# Altium footprint library PCB1.PcbLib: 10 footprints
Each footprint in its own frame and in the unit in brackets; x right, y up, seen from the top. Pads: shape width x height; smd on the part's side, far side on the other; paste and mask are expansions set on the pad; w line width, h text height; cw(c..) or ccw(c..) is an arc to the next point about the centre after c.
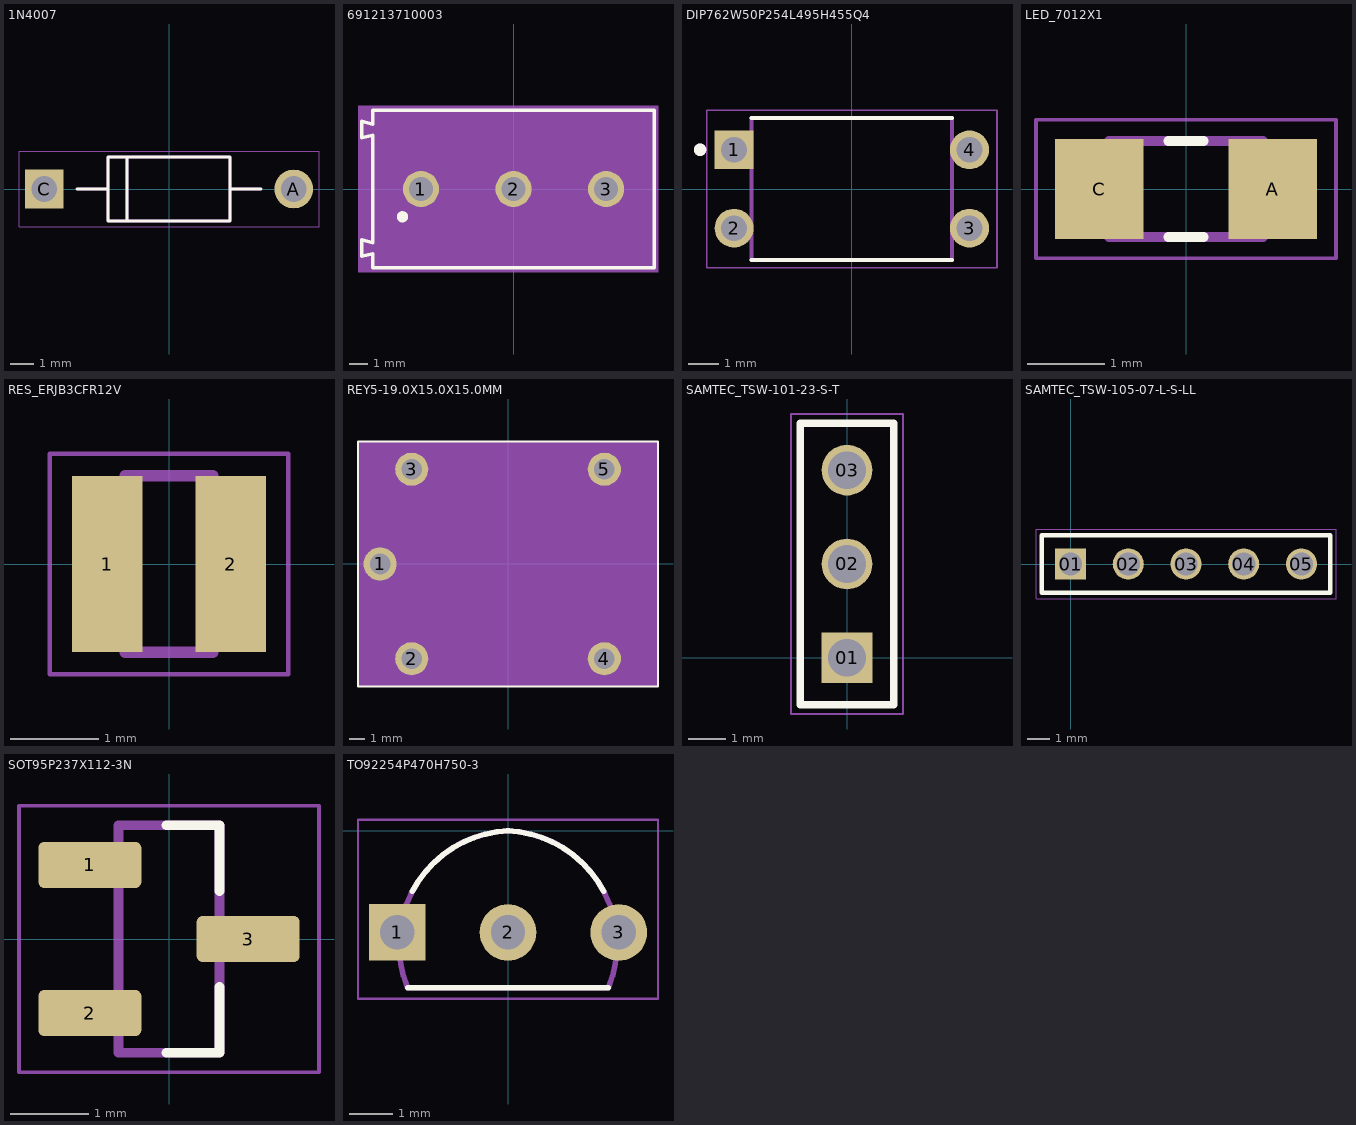
[diagram p0: the footprints below, top view; thin cyan lines are the x and y axes]

## 1N4007 [mm]
pads (2):
  round 1.65 hole 1.1 mask+0.102: A(5.3,0)
  rect 1.65x1.65 / inner round 1.65 / far side rect 1.65x1.65 hole 1.1 mask+0.102: C(-5.3,0)
Top Overlay:
  lines w0.127: -3.9,0 -2.6,0 ; 3.9,0 2.6,0 ; -2.6,0 -2.6,-1.35 -1.775,-1.35 ; -2.6,0 -2.6,1.35 -1.775,1.35 ; -1.775,-1.35 -1.775,1.35 ; -1.775,-1.35 2.6,-1.35 2.6,0 ; -1.775,1.35 2.6,1.35 2.6,0
Mechanical 13:
  lines w0.127: -3.9,0 -2.6,0 ; 3.9,0 2.6,0 ; -2.6,0 -2.6,-1.35 -1.775,-1.35 ; -2.6,0 -2.6,1.35 -1.775,1.35 ; -1.775,-1.35 -1.775,1.35 ; -1.775,-1.35 2.6,-1.35 2.6,0 ; -1.775,1.35 2.6,1.35 2.6,0
Mechanical 15:
  lines w0.05: -6.375,-1.6 -6.375,1.6 6.375,1.6 6.375,-1.6 -6.375,-1.6
3D body "1N4004G.STEP": height 2.71, standoff -21.76, extent -5.573,-1.36 5.573,1.36

## 691213710003 [mm]
pads (3):
  round 1.95 hole 1.3: 1(-5,0) 2(0,0) 3(5,0)
Top Overlay:
  circle w0.4: c-6,-1.5 r0.1
  lines w0.2: -8.2,-3.625 -7.6,-3.5 -7.6,-4.25 7.6,-4.25 7.6,4.25 -7.6,4.25 -7.6,3.5 -8.2,3.65 -8.2,2.775 -7.6,2.9 -7.6,-2.9 -8.2,-2.75 -8.2,-3.625
Mechanical 13:
  lines w0.1: -8.1,-3.525 -7.5,-3.4 -7.5,-4.15 7.5,-4.15 7.5,4.15 -7.5,4.15 -7.5,3.4 -8.1,3.525 -8.1,2.875 -7.5,3 -7.5,-3 -8.1,-2.875 -8.1,-3.525
Mechanical 15:
  region: 7.8,-4.5 -8.4,-4.5 -8.4,4.5 7.8,4.5
3D body "691213710003+%28rev1%29.stp": height 9.54, standoff -4.26, extent -7.599,-4.064 8.001,4.236

## DIP762W50P254L495H455Q4 [mm]
height 4.55
pads (4):
  rect 1.26x1.26 / inner round 1.26 / far side rect 1.26x1.26 hole 0.84: 1(-3.81,1.27)
  round 1.26 hole 0.84: 2(-3.81,-1.27) 3(3.81,-1.27) 4(3.81,1.27)
Top Overlay:
  circle w0.2: c-4.91,1.27 r0.1
  lines w0.127: -3.25,-2.3 3.25,-2.3 ; -3.25,2.3 3.25,2.3
Mechanical 13:
  circle w0.2: c-4.91,1.27 r0.1
  lines w0.127: -3.25,-2.3 -3.25,2.3 3.25,2.3 3.25,-2.3 -3.25,-2.3
Mechanical 15:
  lines w0.05: -4.7,-2.55 -4.7,2.55 4.7,2.55 4.7,-2.55 -4.7,-2.55
3D body "step_temp.STEP": height 5.06, standoff -3.09, extent -3.935,-2.3 3.935,2.3
3D body: height 4.55, standoff 0, extent -3.249,-2.299 3.249,2.299

## LED_7012X1 [mm]
height 1
pads (2):
  rect 1.15x1.3 smd: A(1.125,0) C(-1.125,0)
Top Overlay:
  lines w0.127: -0.23,-0.625 0.23,-0.625 ; -0.23,0.625 0.23,0.625
Mechanical 13:
  lines w0.127: -1,-0.625 -1,0.625 1,0.625 1,-0.625 -1,-0.625
Mechanical 15:
  lines w0.05: -1.95,-0.9 -1.95,0.9 1.95,0.9 1.95,-0.9 -1.95,-0.9
3D body "step_temp.STEP": height 0.73, standoff 0, extent -1.003,-0.622 1.003,0.622

## RES_ERJB3CFR12V [mm]
pads (2):
  rect 0.8x2 smd: 1(-0.7,0) 2(0.7,0)
Mechanical 13:
  lines w0.127: -0.5,-1 0.5,-1 0.5,1 -0.5,1 -0.5,-1
Mechanical 15:
  lines w0.05: -1.35,-1.25 1.35,-1.25 1.35,1.25 -1.35,1.25 -1.35,-1.25
3D body "ERA-6AEB1400V.STEP": height 0.6, standoff 0, extent -1,-0.625 1,0.625

## REY5-19.0X15.0X15.0MM [mm]
pads (5):
  round 2.1 hole 1.3: 1(-8.1,0) 2(-6.1,-6) 3(-6.1,6) 4(6.1,-6) 5(6.1,6)
Top Overlay:
  lines w0.127: -9.5,-7.75 -9.5,7.75 9.5,7.75 9.5,-7.75 -9.5,-7.75
Mechanical 15:
  region: 9.5,-7.751 -9.502,-7.751 -9.502,7.75 9.5,7.75
3D body "step_temp.STEP": height 15.8, standoff -4, extent -9.5,-7.75 9.5,7.75

## SAMTEC_TSW-101-23-S-T [mm]
pads (3):
  rect 1.37x1.37 hole 1.02: 01(0,0)
  round 1.37 hole 1.02: 02(0,2.54) 03(0,5.08)
Top Overlay:
  lines w0.2: -1.27,-1.27 1.27,-1.27 1.27,6.35 -1.27,6.35 -1.27,-1.27
Mechanical 13:
  lines w0.1: -1.27,-1.27 -1.27,6.35 ; -1.27,-1.27 1.27,-1.27 ; -1.27,-1.27 -1.27,6.35 ; -1.27,6.35 1.27,6.35 ; -1.27,6.35 1.27,6.35 ; 1.27,-1.27 1.27,6.35 ; 1.27,-1.27 1.27,6.35
Mechanical 15:
  lines w0.05: -1.52,-1.52 1.52,-1.52 1.52,6.6 -1.52,6.6 -1.52,-1.52
3D body "TSW-101-07-T-T.stp": height 8.38, standoff -2.54, extent -1.27,-1.27 1.27,6.35

## SAMTEC_TSW-105-07-L-S-LL [mm]
pads (5):
  rect 1.37x1.37 hole 1.02: 01(0,0)
  round 1.37 hole 1.02: 02(2.54,0) 03(5.08,0) 04(7.62,0) 05(10.16,0)
Top Overlay:
  lines w0.2: -1.27,-1.27 11.43,-1.27 11.43,1.27 -1.27,1.27 -1.27,-1.27
Mechanical 13:
  lines w0.1: -1.27,-1.27 11.43,-1.27 11.43,1.27 -1.27,1.27 -1.27,-1.27
Mechanical 15:
  lines w0.05: -1.52,-1.52 11.68,-1.52 11.68,1.52 -1.52,1.52 -1.52,-1.52
3D body "TSW-105-23-L-S.stp": height 8.38, standoff -2.92, extent -1.397,-1.27 11.43,1.27

## SOT95P237X112-3N [mm]
height 1.12
pads (3):
  rrect25% 1.32x0.59 smd paste+0 mask+0.102: 1(-1.015,0.95) 2(-1.015,-0.95) 3(1.015,0)
Top Overlay:
  lines w0.127: -0.035,-1.46 0.65,-1.46 0.65,-0.615 ; -0.035,1.46 0.65,1.46 0.65,0.615
Mechanical 13:
  lines w0.127: -0.65,-1.46 0.65,-1.46 0.65,1.46 -0.65,1.46 -0.65,-1.46
Mechanical 15:
  lines w0.05: -1.925,-1.71 1.925,-1.71 1.925,1.71 -1.925,1.71 -1.925,-1.71
3D body "step_temp.STEP": height 1.2, standoff -0.1, extent -1.3,-1.516 1.3,1.524

## TO92254P470H750-3 [mm]
height 7.5
pads (3):
  rect 1.298x1.298 / inner round 1.298 / far side rect 1.298x1.298 hole 0.79 mask+0.102: 1(-2.54,-2.33)
  round 1.298 hole 0.79 mask+0.102: 2(0,-2.33) 3(2.54,-2.33)
Top Overlay:
  lines w0.127: -2.3,-3.6 2.3,-3.6 ; -2.19,-1.381 cw(c0.112,-2.605) 0.021,0.001 ; -0.021,0.001 cw(c-0.112,-2.605) 2.19,-1.381
Mechanical 13:
  lines w0.127: -2.307,-3.582 cw(c0.11,-2.605) 0.019,0.001 ; -2.3,-3.6 2.3,-3.6 ; -0.019,0.001 cw(c-0.11,-2.605) 2.307,-3.582
Mechanical 15:
  lines w0.05: -3.439,-3.85 3.439,-3.85 3.439,0.252 -3.439,0.252 -3.439,-3.85
3D body "step_temp.STEP": height 7.65, standoff -9.45, extent -2.74,-3.727 2.74,-0.127